# Altium schematic symbol library MONO_JACK.SchLib: 1 symbol
Pins are listed as number, name and electrical type; pins without a type are passive.

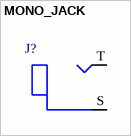
[diagram p0: symbol MONO_JACK]

## MONO_JACK
designator J?  (value not drawn)
pins: S, T